# EAGLE library part SI4558DY (library m_misc)
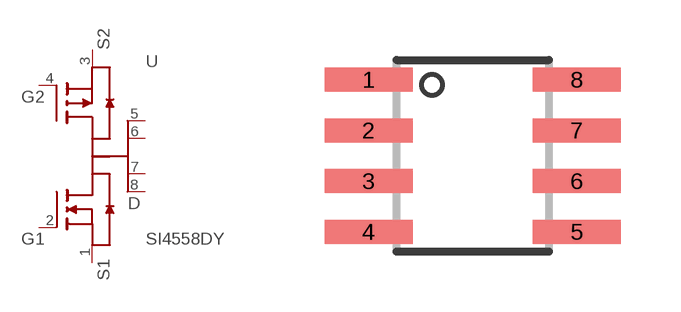
[diagram p1: symbol with the pads of SO08; footprint SO08]

Designator prefix -

## SI4558DY  [SO08]
1  S_1
2  G_1
3  S_2
4  G_2
5  D1
6  D2
7  D3
8  D4

## Footprint SO08 (pad centres in mm)
Small Outline Package 8 NS Package M08A
smd 2.2 x 0.6: 1 -2.604,1.905; 2 -2.604,0.635; 3 -2.604,-0.635; 4 -2.604,-1.905; 5 2.604,-1.905; 6 2.604,-0.635; 7 2.604,0.635; 8 2.604,1.905